# Altium footprint library 2x4_2.54mm_header_vertical_male.PcbLib: 1 footprints
Each footprint in its own frame and in the unit in brackets; x right, y up, seen from the top. Pads: shape width x height; smd on the part's side, far side on the other; paste and mask are expansions set on the pad; w line width, h text height; cw(c..) or ccw(c..) is an arc to the next point about the centre after c.
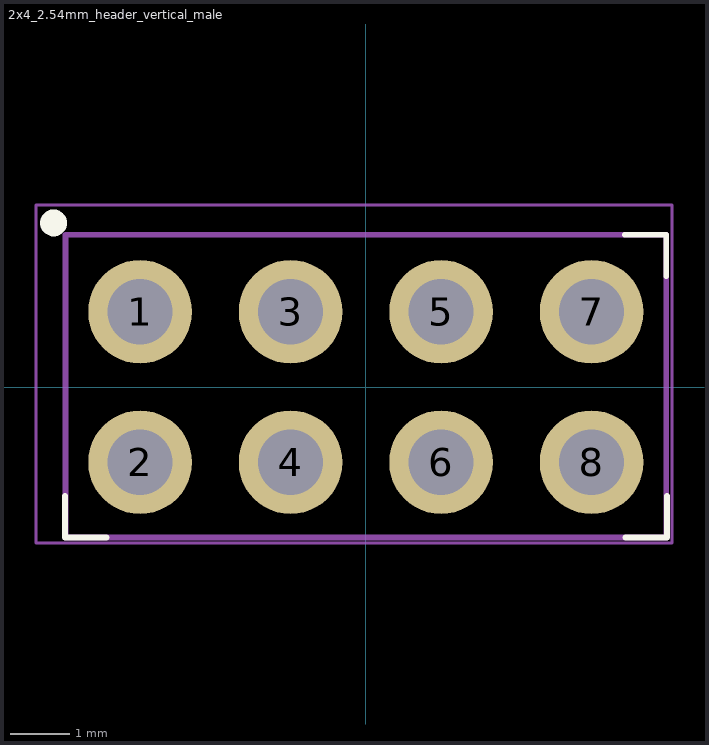
[diagram p0: the footprint, top view; thin cyan lines are the x and y axes]

## 2x4_2.54mm_header_vertical_male [mm]
pads (8):
  round 1.75 hole 1.1: 1(-3.81,1.27) 2(-3.81,-1.27) 3(-1.27,1.27) 4(-1.27,-1.27) 5(1.27,1.27) 6(1.27,-1.27) 7(3.81,1.27) 8(3.81,-1.27)
Top Overlay:
  circle w0.254: c-5.27,2.77 r0.1
  lines w0.1: -5.08,-1.84 -5.08,-2.54 -4.38,-2.54 ; 4.37,2.57 5.07,2.57 5.07,1.87 ; 4.38,-2.54 5.08,-2.54 5.08,-1.84
Mechanical 1:
  lines w0.1: -5.07,-2.54 -5.07,2.57 5.07,2.57 5.07,-2.54 -5.07,-2.54
  text ".Designator" at -3.685,-0.293 h0.65
Mechanical 2:
  lines w0.05: -5.57,-2.63 5.17,-2.63 5.17,3.07 -5.57,3.07 -5.57,-2.63
  lines w0.1: -1.77,1.27 -0.77,1.27 ; -1.27,0.77 -1.27,1.77
3D body "61300821121_Download_STP_61300821121_rev1.stp": height 8.62, standoff -2.92, extent -5.08,-2.54 5.08,2.54